# Altium schematic symbol library Diodes.SchLib: 8 symbols
Pins are listed as number, name and electrical type; pins without a type are passive.

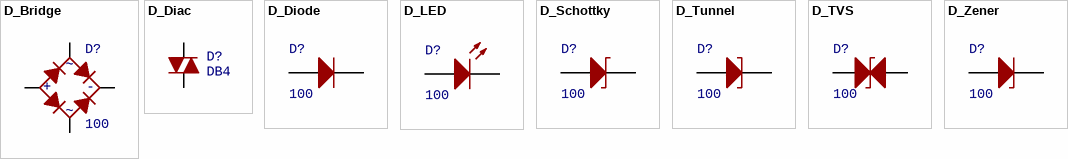
[diagram p0: symbols D_Bridge to D_Zener]

## D_Bridge
designator D?, comment 100
Diode bridge; Value: 100; Manufacture: *; PartNo: *; Package: =Footprint; HelpURL: *
pins: 1 K, 2 C, 3 A, 4 C
text: ~; +; -

## D_Diac
designator D?, comment DB4
Diac; Manufacture: STMicroelectronics; Value: DB4; PartNo: DB4; Package: =Footprint; HelpURL: https://www.digikey.com/en/products/detail/stmicroelectronics/DB4/1037921
pins: 1 A1, 2 A2

## D_Diode
designator D?, comment 100
Diode; Value: 100; Manufacture: *; PartNo: *; Package: =Footprint; HelpURL: *
pins: 1 A, 2 K

## D_LED
designator D?, comment 100
LED; Value: 100; Manufacture: *; PartNo: *; Package: =Footprint; HelpURL: *
pins: 1 A, 2 K

## D_Schottky
designator D?, comment 100
Diode Schottky; Value: 100; Manufacture: *; PartNo: *; Package: =Footprint; HelpURL: *
pins: 1 A, 2 K

## D_Tunnel
designator D?, comment 100
Tunnel diode; Value: 100; Manufacture: *; PartNo: *; Package: =Footprint; HelpURL: *
pins: 1 A, 2 K

## D_TVS
designator D?, comment 100
TVS; Value: 100; Manufacture: *; PartNo: *; Package: =Footprint; HelpURL: *
pins: 1 A, 2 K

## D_Zener
designator D?, comment 100
Zener; Value: 100; Manufacture: *; PartNo: *; Package: =Footprint; HelpURL: *
pins: 1 A, 2 K